# Altium integrated library Resistors.IntLib: 6 symbols
Pins are listed as number, name and electrical type; pins without a type are passive.

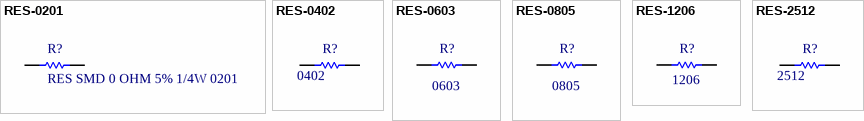
[diagram p0: symbols RES-0201 to RES-2512]

## RES-0201
designator R?, comment RES SMD 0 OHM 5% 1/4W 0201
Resistance: *; Package: *; Tolerance: *
footprint 0201(0603 Metric)
pins: 1, 2

## RES-0402
designator R?, comment Package: 0402  (hidden comment: RES SMD 5.1 OHM 5% 1/4W 0402)
Availability: *; Mabufacturer: *; Manufacturer Part Number: *; Resistance: *; Tolerance: *; Vendor: *; Vendor Part Number: *
footprint 0402(1005 Metric)
pins: 1, 2

## RES-0603
designator R?, comment Package: 0603  (hidden comment: RES SMD 5.1 OHM 5% 1/4W 0603)
Availability: *; Mabufacturer: *; Manufacturer Part Number: *; Resistance: *; Tolerance: *; Vendor: *; Vendor Part Number: *
footprint 0603(1608 METRIC)
pins: 1, 2

## RES-0805
designator R?, comment Package: 0805  (hidden comment: RES SMD 5.1 OHM 5% 1/4W 0805)
Availability: *; Mabufacturer: *; Manufacturer Part Number: *; Resistance: *; Vendor: *; Vendor Part Number: *; Tolerance: *
footprint 0805(2012 METRIC)
pins: 1, 2

## RES-1206
designator R?, comment Package: 1206  (hidden comment: RES SMD 5.1 OHM 5% 1/4W 1206)
Mabufacturer: *; Resistance: *; MP: *; Availability: *; Price: *; Manufacturer Part Number: *; Vendor: *; Vendor Part Number: *; Tolerance: *
footprint 1206(3116 METRIC)
pins: 1, 2

## RES-2512
designator R?, comment Package: 2512  (hidden comment: RES SMD 5.1 OHM 5% 1/4W 2512)
Availability: *; Mabufacturer: *; Manufacturer Part Number: *; Resistance: *; Tolerance: *; Vendor: *; Vendor Part Number: *
footprint 2512(6332 METRIC)
pins: 1, 2